# Altium schematic symbol library 6502_lib.SchLib: 11 symbols
Pins are listed as number, name and electrical type; pins without a type are passive.

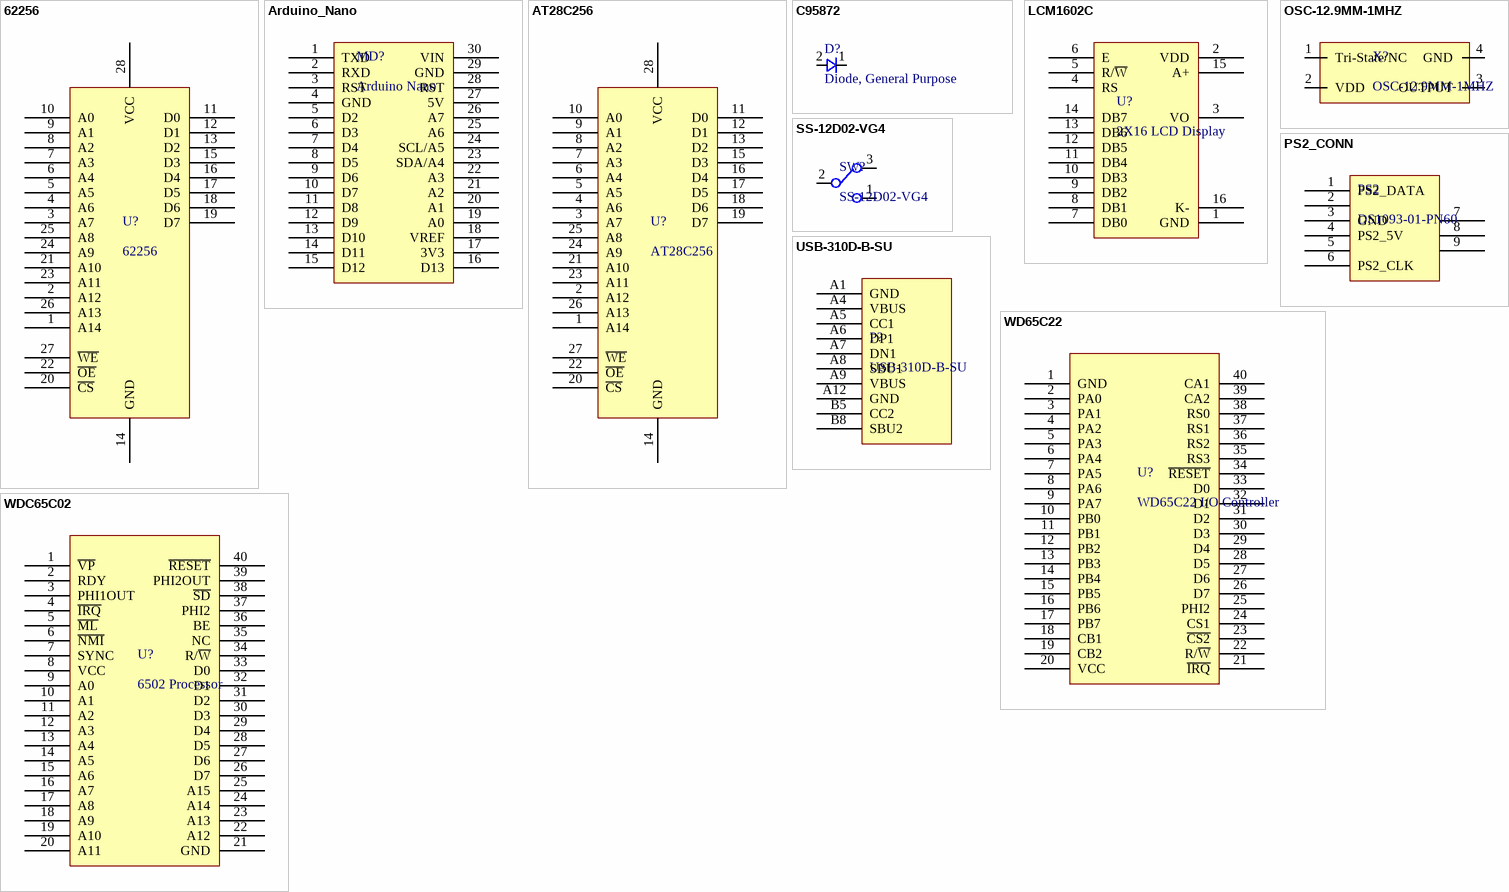
[diagram p0: symbols 62256 to WDC65C02]

## 62256
designator U?
32K x 8, SRAM
footprint DIP_28
pins: 1 A14, 2 A12, 3 A7, 4 A6, 5 A5, 6 A4, 7 A3, 8 A2, 9 A1, 10 A0, 11 D0, 12 D1, 13 D2, 14 GND, 15 D3, 16 D4, 17 D5, 18 D6, 19 D7, 20 ~{CS}, 21 A10, 22 ~{OE}, 23 A11, 24 A9, 25 A8, 26 A13, 27 ~{WE}, 28 VCC

## Arduino_Nano
designator MD?, comment Arduino Nano
Arduino Nano board
footprint ARDUINO_NANO
pins: 1 TXD, 2 RXD, 3 RST, 4 GND, 5 D2, 6 D3, 7 D4, 8 D5, 9 D6, 10 D7, 11 D8, 12 D9, 13 D10, 14 D11, 15 D12, 16 D13, 17 3V3, 18 VREF, 19 A0, 20 A1, 21 A2, 22 A3, 23 SDA/A4, 24 SCL/A5, 25 A6, 26 A7, 27 5V, 28 RST, 29 GND, 30 VIN

## AT28C256
designator U?
Paged Parallel EEPROM AT28C256
footprint DIP_28
pins: 1 A14, 2 A12, 3 A7, 4 A6, 5 A5, 6 A4, 7 A3, 8 A2, 9 A1, 10 A0, 11 D0, 12 D1, 13 D2, 14 GND, 15 D3, 16 D4, 17 D5, 18 D6, 19 D7, 20 ~{CS}, 21 A10, 22 ~{OE}, 23 A11, 24 A9, 25 A8, 26 A13, 27 ~{WE}, 28 VCC

## C95872
designator D?, comment Diode, General Purpose
General Purpose Diode, SMT, DO-214
footprint DO-214AC/SMA
pins: 1, 2

## LCM1602C
designator U?, comment 2X16 LCD Display
2X16 LCD Display, Parallel input
footprint LCD_2x16
pins: 1 GND, 2 VDD, 3 VO, 4 RS, 5 R/~{W}, 6 E, 7 DB0, 8 DB1, 9 DB2, 10 DB3, 11 DB4, 12 DB5, 13 DB6, 14 DB7, 15 A+, 16 K-

## OSC-12.9MM-1MHZ
designator X?
12.9MM x 12.9MM, 1MHz Can Oscillator
footprint OSC_THT_12-9MM
pins: 1 Tri-State/NC, 2 VDD, 3 OUTPUT, 4 GND

## PS2_CONN
designator PS2, comment DS1093-01-PN60
PS2 Port
footprint PS2_PORT
pins: 1 PS2_DATA, 2, 3 GND, 4 PS2_5V, 5, 6 PS2_CLK, 7, 8, 9

## SS-12D02-VG4
designator SW?
SPDT, Korean Hroparts Elec SS-12D02-VG4
footprint 5_2-54mm_SPDT
pins: 1, 2, 3

## USB-310D-B-SU
designator P?
USB Type C Receptacle
footprint USB-C-THT
pins: A1 GND, A4 VBUS, A5 CC1, A6 DP1, A7 DN1, A8 SBU1, A9 VBUS, A12 GND, B5 CC2, B8 SBU2

## WD65C22
designator U?, comment WD65C22 I/O Controller
WD65C22 PDIP-40, I/O Controller
footprint PDIP_40
pins: 1 GND, 2 PA0, 3 PA1, 4 PA2, 5 PA3, 6 PA4, 7 PA5, 8 PA6, 9 PA7, 10 PB0, 11 PB1, 12 PB2, 13 PB3, 14 PB4, 15 PB5, 16 PB6, 17 PB7, 18 CB1, 19 CB2, 20 VCC, 21 ~{IRQ}, 22 R/~{W}, 23 ~{CS2}, 24 CS1, 25 PHI2, 26 D7, 27 D6, 28 D5, 29 D4, 30 D3, 31 D2, 32 D1, 33 D0, 34 ~{RESET}, 35 RS3, 36 RS2, 37 RS1, 38 RS0, 39 CA2, 40 CA1

## WDC65C02
designator U?, comment 6502 Processor
WDC 6502 PDIP-40
footprint PDIP_40
pins: 1 ~{VP}, 2 RDY, 3 PHI1OUT, 4 ~{IRQ}, 5 ~{ML}, 6 ~{NMI}, 7 SYNC, 8 VCC, 9 A0, 10 A1, 11 A2, 12 A3, 13 A4, 14 A5, 15 A6, 16 A7, 17 A8, 18 A9, 19 A10, 20 A11, 21 GND, 22 A12, 23 A13, 24 A14, 25 A15, 26 D7, 27 D6, 28 D5, 29 D4, 30 D3, 31 D2, 32 D1, 33 D0, 34 R/~{W}, 35 NC, 36 BE, 37 PHI2, 38 ~{SD}, 39 PHI2OUT, 40 ~{RESET}